# Altium footprint library Go With The Wind.PcbLib: 32 footprints (part 2 of 2)
Each footprint in its own frame and in the unit in brackets; x right, y up, seen from the top. Pads: shape width x height; smd on the part's side, far side on the other; paste and mask are expansions set on the pad; w line width, h text height; cw(c..) or ccw(c..) is an arc to the next point about the centre after c.
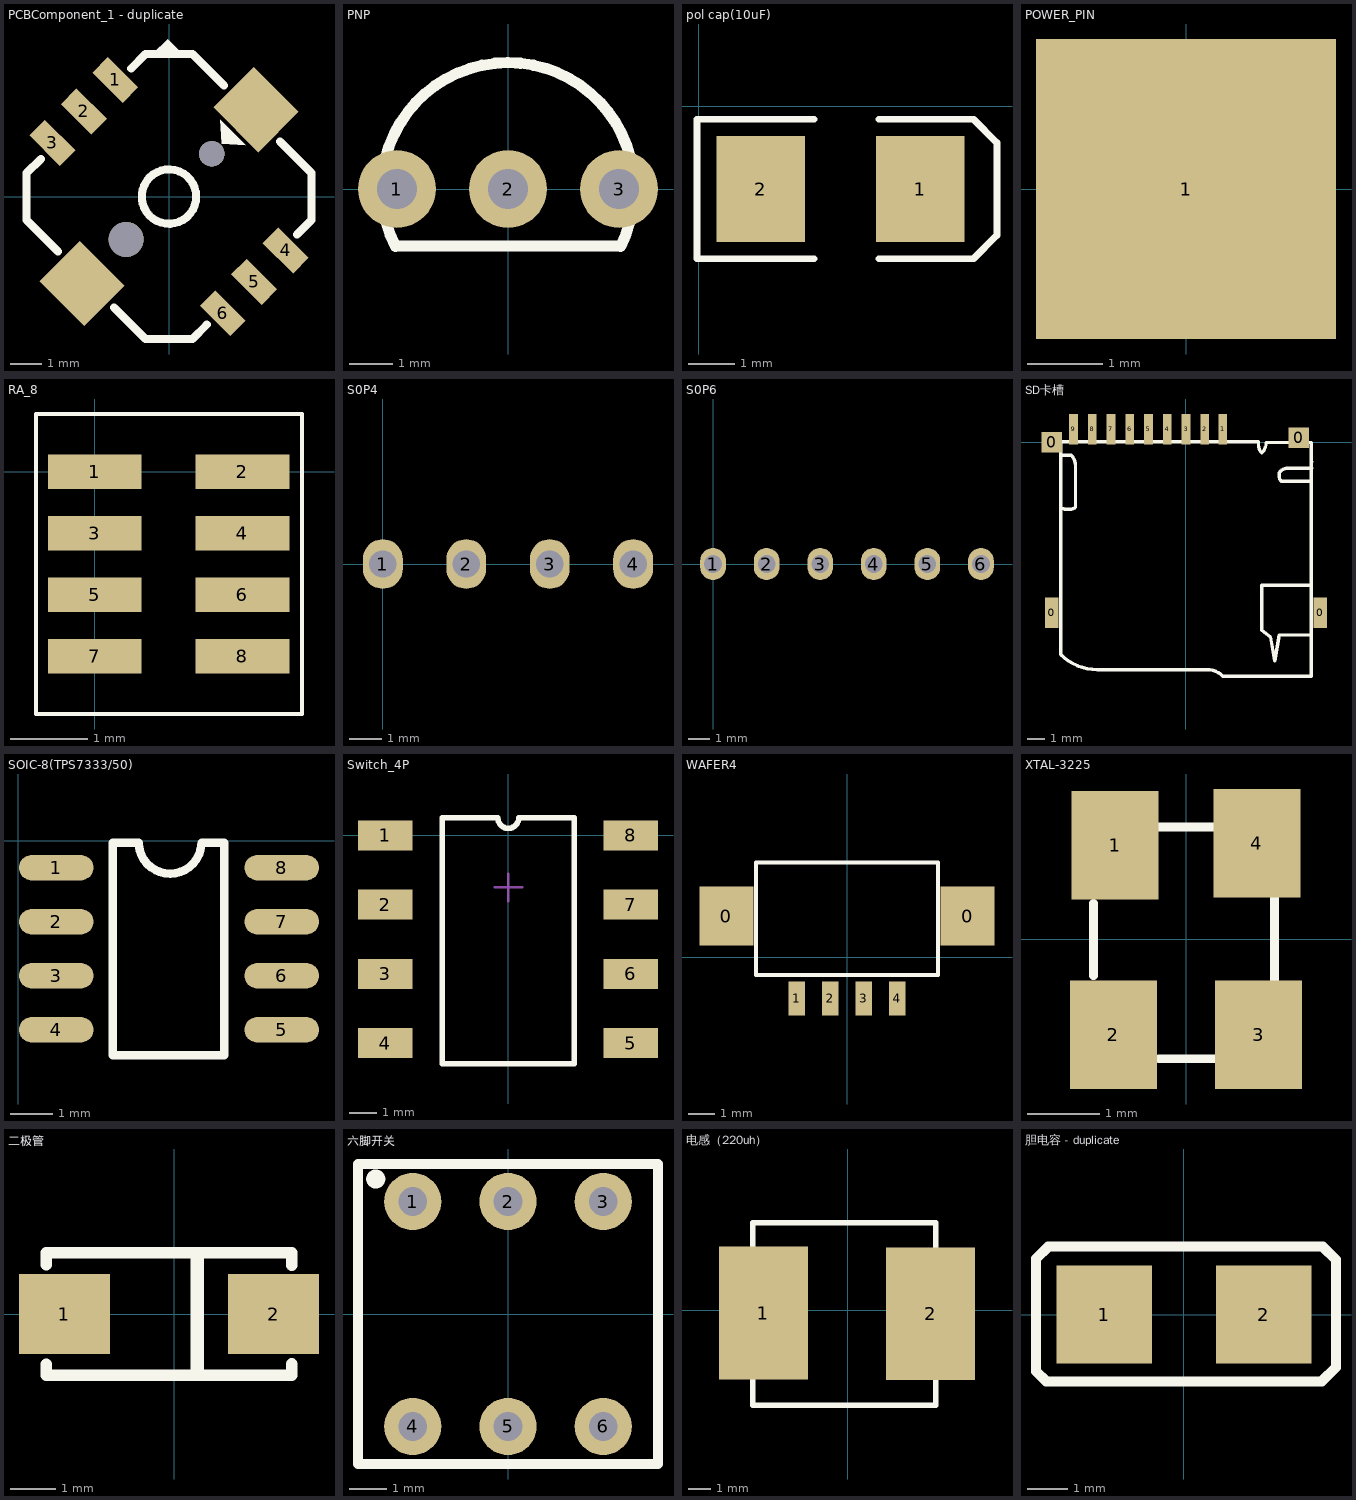
[diagram p1: the footprints below, top view; thin cyan lines are the x and y axes]

## PCBComponent_1 - duplicate [mm]
pads (10):
  rect 0.7x1.35 smd rot 45: 1(-1.688,3.664) 2(-2.676,2.676) 3(-3.664,1.688) 4(3.664,-1.688) 5(2.676,-2.676) 6(1.688,-3.664)
  rect 1.8x2 smd rot 45: ""(-2.73,-2.73) ""(2.73,2.73)
  round 1.1 hole 1.1: ""(-1.344,-1.344)
  round 0.8 hole 0.8: ""(1.344,1.344)
Top Overlay:
  circle w0.254: c0,0 r0.854
  region: -0.494,4.499 -0.045,4.948 0.368,4.535 0.368,4.499
  region: 1.607,2.416 2.416,1.607 1.652,1.652
  lines w0.254: -4.023,1.185 -4.472,0.736 -4.472,-0.736 -3.484,-1.724 ; -1.724,-3.484 -0.736,-4.472 0.736,-4.472 1.185,-4.023 ; -1.185,4.023 -0.736,4.472 0.736,4.472 1.724,3.484 ; 3.484,1.724 4.472,0.736 4.472,-0.736 4.023,-1.185
3D body: height 5, standoff -0.5, extent -4.404,-4.307 4.222,4.319

## PNP [mil]
pads (3):
  round 70 hole 36: 1(-100,0) 2(0,0) 3(100,0)
Top Overlay:
  lines w10: -101.26,-51.82 cw(c0,0) 101.42,-51.5 ; -100,-51.18 100.79,-51.18

## pol cap(10uF) [mil]
pads (2):
  rect 75x90 smd: 1(187.5,-70) 2(52.5,-70)
Top Overlay:
  lines w5.91: 97.5,-129.06 -1.48,-129.06 -1.48,-10.95 97.5,-10.95 ; 152.5,-129.06 232.5,-129.06 252.5,-109.06 ; 152.5,-10.95 232.5,-10.95 252.5,-30.95 ; 252.5,-109.37 252.5,-30.63
3D body: height 74.8, standoff 0, extent 51.1,-125 188.9,-14.76

## POWER_PIN [mm]
pads (1):
  rect 4x4 smd: 1(0,0)

## RA_8 [mm]
pads (8):
  rect 1.22x0.45 smd: 1(0,0) 2(1.92,0) 3(0,-0.8) 4(1.92,-0.8) 5(0,-1.6) 6(1.92,-1.6) 7(0,-2.4) 8(1.92,-2.4)
Top Overlay:
  lines w0.05: -0.762,-3.15 2.692,-3.15 2.692,0.75 -0.762,0.75 -0.762,-3.15

## S0P4 [mil]
pads (4):
  oval 48x60 hole 33: 1(0,0) 2(100.39,0) 3(200.79,0) 4(301.18,0)
3D body: height 331.5, standoff -125.98, extent -59.25,-50 360.43,50

## S0P6 [mil]
pads (6):
  oval 48x60 hole 33: 1(0,0) 2(100,0) 3(200,0) 4(300,0) 5(400,0) 6(500,0)
3D body: height 331.5, standoff -125.98, extent -59.84,-50 559.84,50

## SD卡槽 [mil]
pads (13):
  rect 31.5x70.87 smd: 0(-310,-393.7) 0(310,-393.7)
  rect 47.24x47.24 smd: 0(-310,0) 0(260,10)
  rect 20x70 smd: 1(85,30) 2(43.31,30) 3(0,30) 4(-43.31,30) 5(-86.61,30) 6(-129.92,30) 7(-173.23,30) 8(-216.54,30) 9(-259.84,30)
Top Overlay:
  lines w7.87: -289.37,-150 ccw(c-277.3,-137.93) -277.3,-155 -267.07,-155 ccw(c-267.07,-137.93) -255,-150 -255,-54.14 ccw(c-289.14,-54.14) -265,-30 -289.37,-30 ; 289.37,-445 215,-445 205,-505 195,-450 175,-434 175,-330 289.37,-330 ; 289.37,-90 232.07,-90 220,-90 cw(c232.07,-77.93) 215,-77.93 215,-74.14 cw(c225,-74.14) 217.93,-67.07 cw(c235,-84.14) 235,-60 290,-60 cw(c291.52,-58.48) 289.37,-58.48 289.37,-0.86 185,-0.86 cw(c150.86,-0.86) 175,-25 cw(c193.34,-6.66) 167.4,-6.66 167.4,0.87 -289.37,0.87 -289.37,-490 ccw(c-204.87,-405.5) -204.87,-525 48.78,-525 cw(c48.78,-576.22) 85,-540 289.37,-540 289.37,-99.37 289.37,-45.63 290,-45

## SOIC-8(TPS7333/50) [mm]
pads (8):
  oval 1.75x0.6 smd: 1(0.889,-0.635) 2(0.889,-1.905) 3(0.889,-3.175) 4(0.889,-4.445) 5(6.189,-4.445) 6(6.189,-3.175) 7(6.189,-1.905) 8(6.189,-0.635)
Top Overlay:
  lines w0.2: 2.828,-0.051 2.218,-0.051 2.218,-5.04 4.834,-5.04 4.834,-0.051 4.312,-0.051 ; 2.83,-0.101 ccw(c3.564,-0.04) 4.299,-0.099

## Switch_4P [mm]
pads (8):
  rect 2x1.1 smd: 1(-4.5,0) 2(-4.5,-2.54) 3(-4.5,-5.08) 4(-4.5,-7.62) 5(4.5,-7.62) 6(4.5,-5.08) 7(4.5,-2.54) 8(4.5,0)
Top Overlay:
  lines w0.203: -0.385,0.645 -2.403,0.645 -2.403,-8.382 2.423,-8.382 2.423,0.645 0.391,0.645 ; -0.371,0.635 ccw(c0.01,0.635) 0.391,0.635
Mechanical 15:
  lines w0.1: -0.49,-1.905 0.51,-1.905 ; 0.01,-2.405 0.01,-1.405

## WAFER4 [mm]
pads (6):
  rect 2x2.2 smd: 0(-4.5,1.538) 0(4.5,1.538)
  rect 0.6x1.27 smd: 1(-1.875,-1.537) 2(-0.625,-1.537) 3(0.625,-1.537) 4(1.875,-1.537)
Top Overlay:
  lines w0.152: -3.4,-0.662 -3.4,3.538 3.4,3.538 3.4,-0.662 -3.4,-0.662

## XTAL-3225 [mm]
pads (4):
  rect 1.2x1.5 smd: 1(-0.978,1.295) 2(-1.003,-1.321) 3(1.003,-1.321) 4(0.978,1.321)
Top Overlay:
  lines w0.12: -1.278,-0.505 -1.278,0.495 ; -0.378,-1.655 0.422,-1.655 ; -0.378,1.545 0.422,1.545 ; 1.222,-0.605 1.222,0.595
3D body: height 0.8, standoff 0, extent -1.268,-1.651 1.232,1.549

## 二极管 [mm]
pads (2):
  rect 2x1.75 smd: 1(-2.413,0) 2(2.187,0)
Top Overlay:
  lines w0.254: -2.813,-1.105 -2.813,-1.35 2.587,-1.35 2.587,-1.1 ; -2.813,1.08 -2.813,1.35 2.582,1.35 ; 2.587,1.075 2.587,1.35
  lines w0.3: 0.507,-1.3 0.507,1.3
3D body: height 2.12, standoff -0.02, extent -2.611,-1.342 2.495,1.325

## 六脚开关 [mil]
pads (6):
  round 60 hole 30: 1(-100,118.11) 2(0,118.11) 3(100,118.11) 4(-100,-118.11) 5(0,-118.11) 6(100,-118.11)
Top Overlay:
  circle w10: c-138.86,141.73 r5
  lines w10: -157.48,-157.48 -157.48,157.48 157.48,157.48 157.48,-157.48 -157.48,-157.48

## 电感（220uh） [mm]
pads (2):
  rect 4x6 smd: 1(-3.81,-0.127) 2(3.734,-0.152)
Top Overlay:
  lines w0.254: -4.285,-4.293 -4.285,3.962 3.962,3.962 3.962,-4.293 -4.285,-4.293

## 胆电容 - duplicate [mm]
pads (2):
  rect 2.4x2.45 smd: 1(-2,0) 2(2,0)
Top Overlay:
  lines w0.254: -3.708,-1.422 -3.454,-1.676 3.454,-1.676 3.81,-1.321 3.81,1.372 3.48,1.702 -3.404,1.702 -3.708,1.397 -3.708,-1.422